# Altium footprint library SMC(DO-214AB)_S5.PcbLib: 1 footprints
Each footprint in its own frame and in the unit in brackets; x right, y up, seen from the top. Pads: shape width x height; smd on the part's side, far side on the other; paste and mask are expansions set on the pad; w line width, h text height; cw(c..) or ccw(c..) is an arc to the next point about the centre after c.
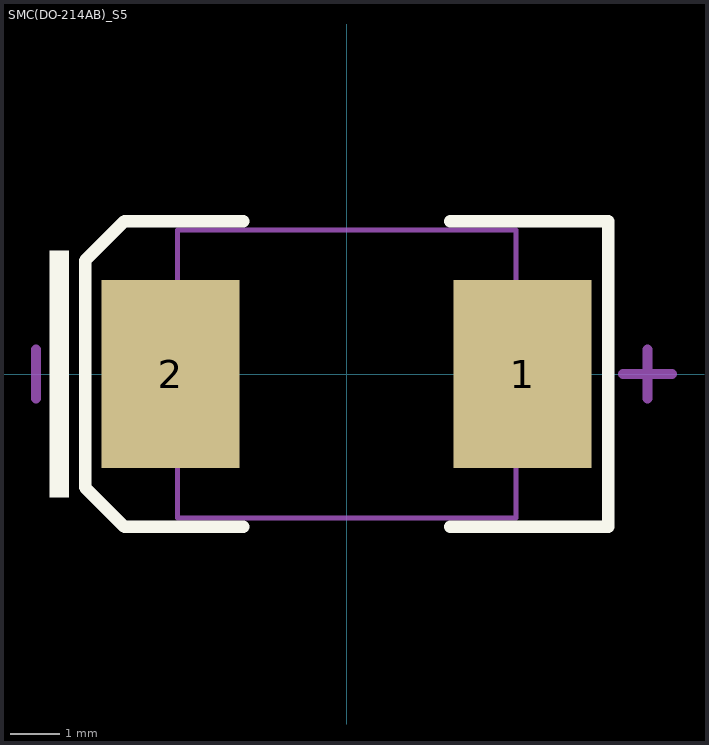
[diagram p0: the footprint, top view; thin cyan lines are the x and y axes]

## SMC(DO-214AB)_S5 [mil]
pads (2):
  rect 110x150 smd: 1(140.49,0) 2(-140.49,0)
Top Overlay:
  rectangle: -237.2,-98.43 -221.46,98.43
  lines w10: -82.68,-122.05 -177.17,-122.05 -208.66,-90.55 -208.66,90.55 -177.17,122.05 -82.68,122.05 ; 82.68,-122.05 208.66,-122.05 208.66,122.05 82.68,122.05
Mechanical 13:
  lines w3.94: -135.04,-114.96 -135.04,114.96 135.04,114.96 135.04,-114.96 -135.04,-114.96
Mechanical 15:
  lines w8: -248.03,-19.68 -248.03,19.68 ; 220.47,0 259.84,0 ; 240.16,-19.68 240.16,19.68